# EAGLE library part 7-SEGMENT-CATHODE (library iStivi - Display)
7-Segment Digit Common Cathode
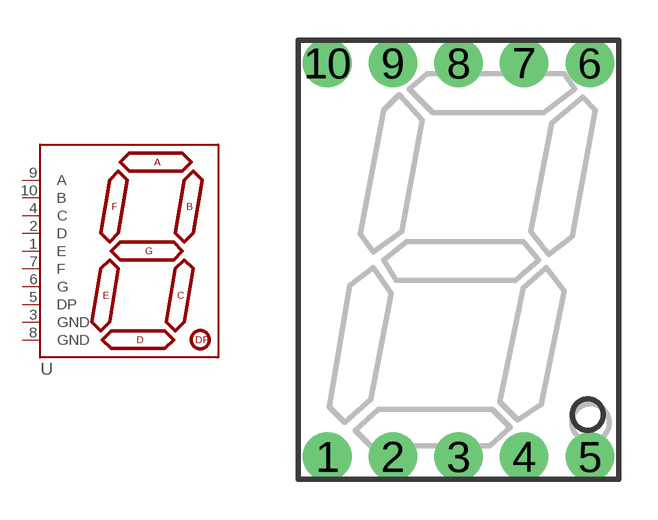
[diagram p0: symbol with the pads of 7-SEGMENT-19MM; footprint 7-SEGMENT-19MM]

Designator prefix -

## 7-SEGMENT-CATHODELSD5115-20  [7-SEGMENT-19MM]
1  E
2  D
3  GND
4  C
5  DP
6  G
7  F
8  GND
9  A
10  B

## Footprint 7-SEGMENT-19MM (pad centres in mm)
7-Segment 19MM case, 15.25MM pins
drill 0.65 pad 1.88: 1 -5.08,-7.62; 2 -2.54,-7.62; 3 0,-7.62; 4 2.54,-7.62; 5 5.08,-7.62; 6 5.08,7.62; 7 2.54,7.62; 8 0,7.62; 9 -2.54,7.62; 10 -5.08,7.62